# EAGLE library part FS25HPS (library NewSDR)
Samtech 25-Pin D-Sub Surface Mount Socket
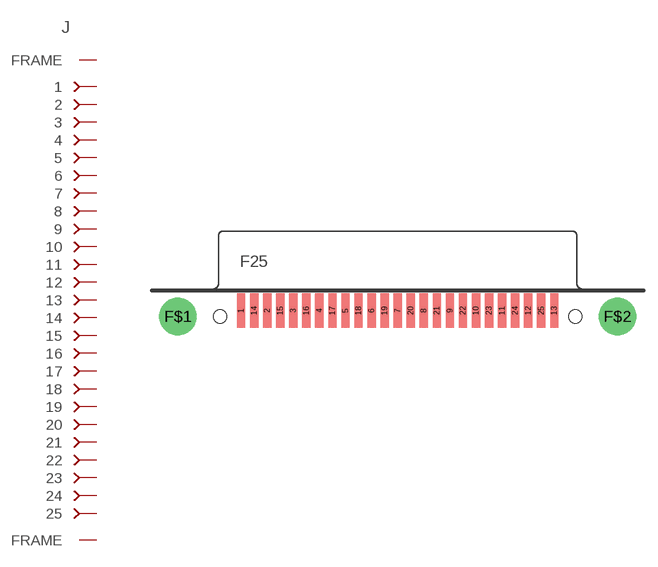
[diagram p3: symbol with the pads of FS25HP; footprint FS25HP]

Designator prefix J

## FS25HPS  [FS25HP]
1  1
2  2
3  3
4  4
5  5
6  6
7  7
8  8
9  9
10  10
11  11
12  12
13  13
14  14
15  15
16  16
17  17
18  18
19  19
20  20
21  21
22  22
23  23
24  24
25  25
F$1  FRAME
F$2  FRAME

## Footprint FS25HP (pad centres in mm)
smd 0.889 x 3.708: 1 -16.764,-2.362; 2 -13.97,-2.362; 3 -11.176,-2.362; 4 -8.382,-2.362; 5 -5.588,-2.362; 6 -2.794,-2.362; 7 0,-2.362; 8 2.794,-2.362; 9 5.588,-2.362; 10 8.382,-2.362; 11 11.176,-2.362; 12 13.97,-2.362; 13 16.764,-2.362; 14 -15.367,-2.362; 15 -12.573,-2.362; 16 -9.779,-2.362; 17 -6.985,-2.362; 18 -4.191,-2.362; 19 -1.397,-2.362; 20 1.397,-2.362; 21 4.191,-2.362; 22 6.985,-2.362; 23 9.779,-2.362; 24 12.573,-2.362; 25 15.367,-2.362
drill 2.997: F$1 -23.52,-2.997; F$2 23.52,-2.997
hole 1.397 at -19.025,-2.997
hole 1.397 at 19.025,-2.997